# Altium footprint library CC3200.PcbLib: 26 footprints (part 2 of 2)
Each footprint in its own frame and in the unit in brackets; x right, y up, seen from the top. Pads: shape width x height; smd on the part's side, far side on the other; paste and mask are expansions set on the pad; w line width, h text height; cw(c..) or ccw(c..) is an arc to the next point about the centre after c.
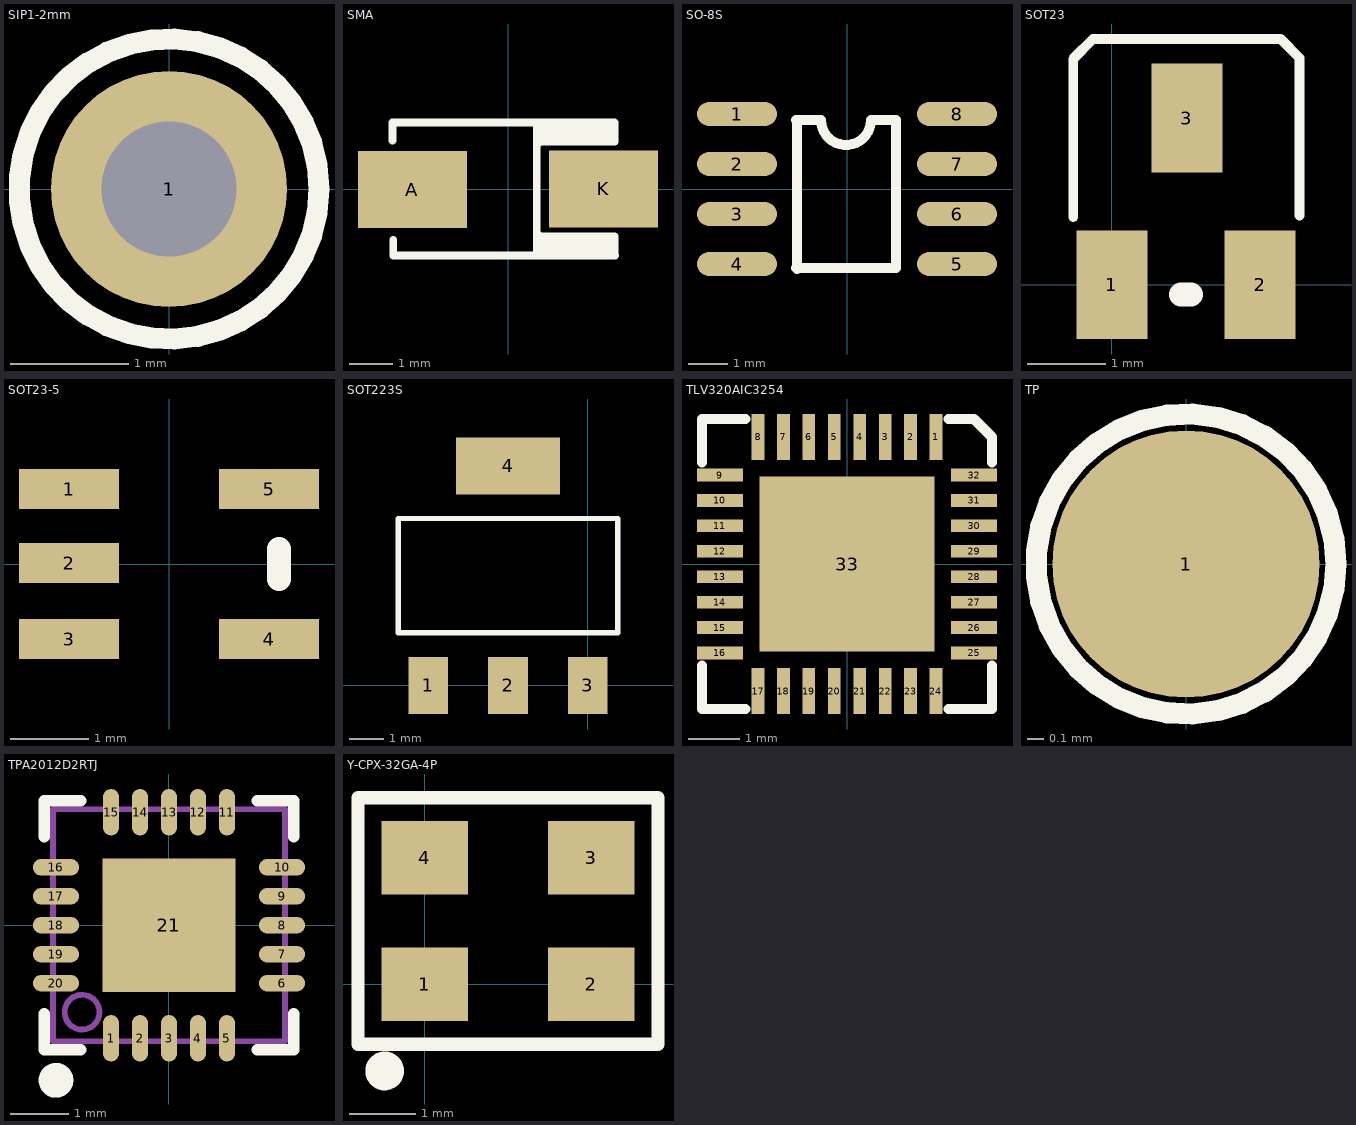
[diagram p1: the footprints below, top view; thin cyan lines are the x and y axes]

## SIP1-2mm [mm]
pads (1):
  round 2 hole 1.143: 1(0,0)
Top Overlay:
  circle w0.178: c0,0 r1.27

## SMA [mm]
height 2.3
pads (2):
  rect 2.5x1.778 smd: A(-2.193,-0.006) K(2.193,0.006)
Top Overlay:
  lines w0.178: -2.649,1.118 -2.649,1.53 2.447,1.53 2.447,1.092 0.694,1.092 ; -2.631,-1.161 -2.631,-1.518 2.454,-1.518 ; 0.66,-1.493 0.66,1.524 ; 0.66,-1.182 2.447,-1.182 ; 0.66,-1.004 0.694,-1.038 ; 0.66,1.016 0.694,1.05 ; 0.66,1.194 2.447,1.194 ; 0.694,-1.08 2.447,-1.08 2.447,-1.518 ; 0.66,-1.35 2.447,-1.35 0.66,-1.35 ; 0.66,1.362 2.447,1.362 0.66,1.362
3D body "User Library-DO-214AC(SMA).step": height 2.3, standoff 0.02, extent -2.743,-1.397 2.743,1.397

## SO-8S [mil]
pads (8):
  oval 80x24 smd: 1(-110,75) 2(-110,25) 3(-110,-25) 4(-110,-75) 5(110,-75) 6(110,-25) 7(110,25) 8(110,75)
Top Overlay:
  lines w10: -51,-79 49,-79 49,69 24,69 cw(c-1,69) -26,69 -51,69 -50,68 -50,-80

## SOT23 [mil]
pads (3):
  rect 36x55 smd: 1(0,0) 2(75,0) 3(38,84.31)
Top Overlay:
  lines w5: -19.58,34.31 -19.58,114.31 -9.58,124.31 85.42,124.31 95,114.73 95,35
  lines w12: 35,-5 40,-5

## SOT23-5 [mil]
pads (5):
  rect 50x20 smd: 1(-50,37.5) 2(-50,0.5) 3(-50,-37.5) 4(50,-37.5) 5(50,37.5)
Top Overlay:
  lines w12: 55,-7.5 55,7.5

## SOT223S [mil]
pads (4):
  rect 45x65 smd: 1(-182,0) 2(-91,0) 3(0,0)
  rect 118x65 smd: 4(-91,250)
Top Overlay:
  lines w5.91: -216,60 34,60 34,190 -216,190 -216,60

## TLV320AIC3254 [mm]
pads (33):
  rect 0.25x0.9 smd: 1(1.75,2.5) 2(1.25,2.5) 3(0.75,2.5) 4(0.25,2.5) 5(-0.25,2.5) 6(-0.75,2.5) 7(-1.25,2.5) 8(-1.75,2.5) 17(-1.75,-2.5) 18(-1.25,-2.5) 19(-0.75,-2.5) 20(-0.25,-2.5) 21(0.25,-2.5) 22(0.75,-2.5) 23(1.25,-2.5) 24(1.75,-2.5)
  rect 0.9x0.25 smd: 9(-2.5,1.75) 10(-2.5,1.25) 11(-2.5,0.75) 12(-2.5,0.25) 13(-2.5,-0.25) 14(-2.5,-0.75) 15(-2.5,-1.25) 16(-2.5,-1.75) 25(2.5,-1.75) 26(2.5,-1.25) 27(2.5,-0.75) 28(2.5,-0.25) 29(2.5,0.25) 30(2.5,0.75) 31(2.5,1.25) 32(2.5,1.75)
  rect 3.45x3.45 smd: 33(0,0)
Top Overlay:
  lines w0.2: -2.85,-2 -2.85,-2.85 -2,-2.85 ; -2.85,2 -2.85,2.85 -2,2.85 ; 2,-2.85 2.85,-2.85 2.85,-2 ; 2,2.85 2.5,2.85 2.85,2.5 2.85,2

## TP [mm]
pads (1):
  round 1.6 smd: 1(0,0)
Top Overlay:
  circle w0.127: c0,0 r0.898

## TPA2012D2RTJ [mm]
pads (21):
  oval 0.28x0.8 smd: 1(-1,-1.95) 2(-0.5,-1.95) 3(0,-1.95) 4(0.5,-1.95) 5(1,-1.95) 11(1,1.95) 12(0.5,1.95) 13(0,1.95) 14(-0.5,1.95) 15(-1,1.95)
  oval 0.8x0.28 smd: 6(1.95,-1) 7(1.95,-0.5) 8(1.95,0) 9(1.95,0.5) 10(1.95,1) 16(-1.95,1) 17(-1.95,0.5) 18(-1.95,0) 19(-1.95,-0.5) 20(-1.95,-1)
  rect 2.3x2.3 smd: 21(0,0)
Top Overlay:
  circle w0.3: c-1.95,-2.675 r0.15
  lines w0.2: -2.15,-1.525 -2.15,-2.15 -1.525,-2.15 ; -2.15,1.525 -2.15,2.15 -1.525,2.15 ; 1.525,-2.15 2.15,-2.15 2.15,-1.525 ; 1.525,2.15 2.15,2.15 2.15,1.525
Mechanical 13:
  circle w0.1: c-1.5,-1.5 r0.3
  lines w0.1: -2,-2 -2,2 2,2 2,-2 -2,-2

## Y-CPX-32GA-4P [mm]
pads (4):
  rect 1.3x1.1 smd: 1(0,0) 2(2.5,0) 3(2.5,1.9) 4(0,1.9)
Top Overlay:
  circle w0.3: c-0.6,-1.3 r0.141
  lines w0.2: -1,-0.9 3.5,-0.9 3.5,2.8 -1,2.8 -1,0.4 -1,-0.9